# Altium footprint library 封装库.PCBLIB: 282 footprints (part 9 of 18)
Each footprint in its own frame and in the unit in brackets; x right, y up, seen from the top. Pads: shape width x height; smd on the part's side, far side on the other; paste and mask are expansions set on the pad; w line width, h text height; cw(c..) or ccw(c..) is an arc to the next point about the centre after c.
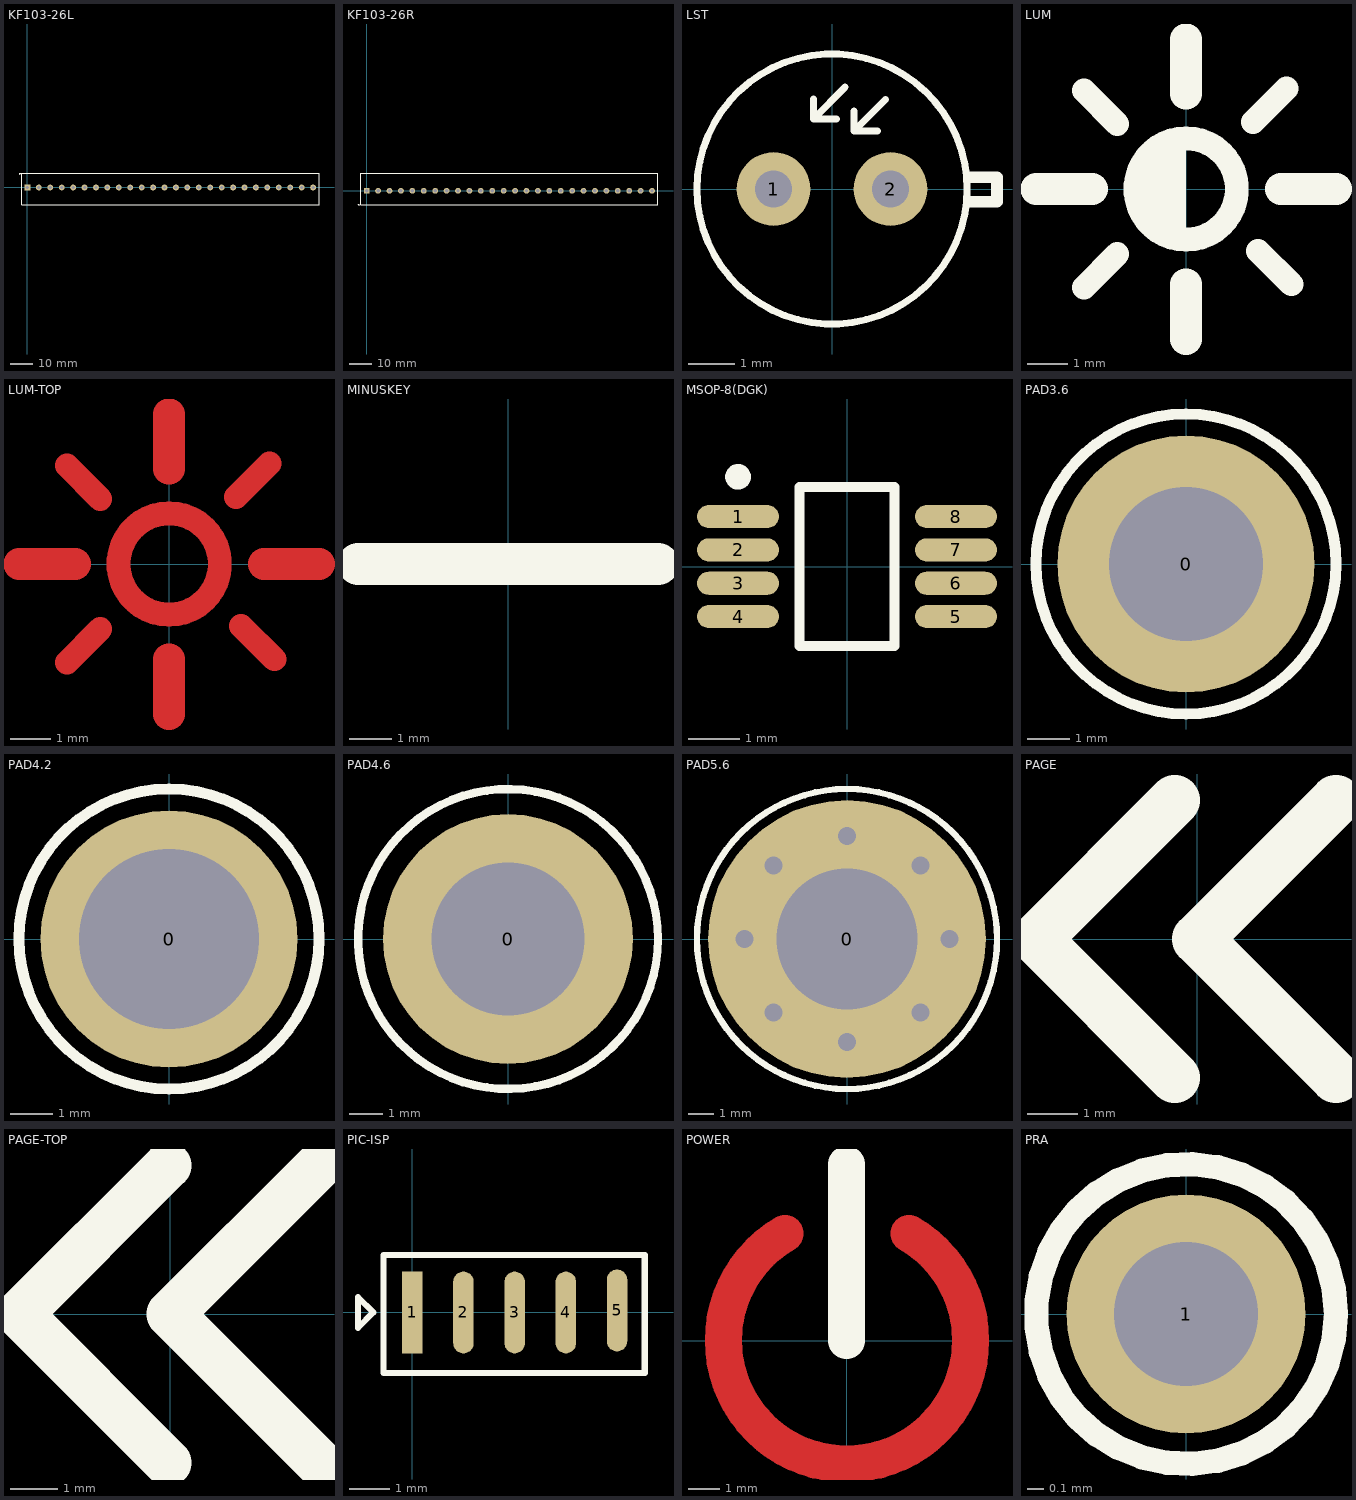
[diagram p8: the footprints below, top view; thin cyan lines are the x and y axes]

## KF103-26L [mm] "5.00mm,KF-128V,KF-103,left"
pads (26):
  rect 2.54x2.54 hole 1.5: 1(0,0)
  round 2.54 hole 1.5: 2(5,0) 3(10,0) 4(15,0) 5(20,0) 6(25,0) 7(30,0) 8(35,0) 9(40,0) 10(45,0) 11(50,0) 12(55,0) 13(60,0) 14(65,0) 15(70,0) 16(75,0) 17(80,0) 18(85,0) 19(90,0) 20(95,0) 21(100,0) 22(105,0) 23(110,0) 24(115,0) 25(120,0) 26(125,0)
TopOverlay:
  lines w0.152: 7.489,-7.5 18.523,-7.5 ; 17.511,-7.5 27.511,-7.5 ; -3.68,6.172 -2.918,6.172 -3.299,5.791 -3.68,6.172 ; -2.518,-7.5 -2.518,6.187 27.511,6.187 57.54,6.187 87.569,6.187 127.598,6.187 127.598,-7.5 -2.518,-7.5

## KF103-26R [mm] "5.00mm,KF-128V,KF-103,right"
pads (26):
  rect 2.54x2.54 hole 1.5: 1(0,0)
  round 2.54 hole 1.5: 2(5,0) 3(10,0) 4(15,0) 5(20,0) 6(25,0) 7(30,0) 8(35,0) 9(40,0) 10(45,0) 11(50,0) 12(55,0) 13(60,0) 14(65,0) 15(70,0) 16(75,0) 17(80,0) 18(85,0) 19(90,0) 20(95,0) 21(100,0) 22(105,0) 23(110,0) 24(115,0) 25(120,0) 26(125,0)
TopOverlay:
  lines w0.152: -3.81,-6.198 -3.429,-5.817 -3.048,-6.198 -3.81,-6.198 ; -2.5,-6.2 127.617,-6.2 127.617,7.8 -2.5,7.8 -2.5,0 -2.5,-6.2

## LST [mm]
pads (2):
  round 1.6 hole 0.8: 1(-1.27,0) 2(1.27,0)
TopOverlay:
  circle w0.152: c0,0 r2.932
  lines w0.152: -0.406,1.956 -0.406,1.524 0.279,2.21 ; -0.381,1.524 0.102,1.524 ; 0.478,1.69 0.478,1.258 1.164,1.944 ; 0.504,1.258 0.986,1.258
  lines w0.254: 2.997,0.254 3.581,0.254 3.581,-0.279 3.008,-0.279

## LUM [mm]
TopOverlay:
  rectangle: -0.66,-1.27 0,1.067
  rectangle: -0.66,-0.965 -0.127,1.067
  lines w0.254: -1.118,-0.559 -1.118,0.559 ; -0.889,-0.838 -0.889,0.787 ; -0.66,-0.965 -0.66,1.016 ; -0.432,-1.194 -0.432,1.092
  lines w0.6: -2.565,-2.464 -1.727,-1.626 ; -2.565,2.464 -1.727,1.626 ; 1.676,1.676 2.515,2.515 ; 1.803,-1.549 2.642,-2.388 ; 0,-1.27 ccw(c0,0) 0,1.27 ccw(c0,0) 0,-1.27
  lines w0.8: -3.759,0 -2.362,0 ; 0,-3.759 0,-2.388 ; 0,2.388 0,3.759 ; 2.378,0 3.749,0

## LUM-TOP [mm]
TopLayer:
  lines w0.6: -2.565,-2.464 -1.727,-1.626 ; -2.565,2.464 -1.727,1.626 ; 1.676,1.676 2.515,2.515 ; 1.803,-1.549 2.642,-2.388 ; 0,-1.27 cw(c0,0) 0,1.27 cw(c0,0) 0,-1.27
  lines w0.8: -3.759,0 -2.362,0 ; 0,-3.759 0,-2.388 ; 0,2.388 0,3.759 ; 2.378,0 3.749,0

## MINUSKEY [mm]
TopOverlay:
  lines w1: -3.556,0 0,0 3.556,0

## MSOP-8(DGK) [mm]
pads (8):
  oval 1.6x0.45 smd: 1(-2.125,0.975) 2(-2.125,0.325) 3(-2.125,-0.325) 4(-2.125,-0.975) 5(2.125,-0.975) 6(2.125,-0.325) 7(2.125,0.325) 8(2.125,0.975)
TopOverlay:
  circle w0.25: c-2.125,1.75 r0.125
  lines w0.2: -0.925,-1.55 -0.925,1.55 0.925,1.55 0.925,-1.55 -0.925,-1.55

## PAD3.6 [mm] "3.6mm,PAD"
pads (1):
  round 6 hole 3.6: 0(0,0)
TopOverlay:
  circle w0.254: c0,0 r3.5

## PAD4.2 [mm] "4.2mm,PAD"
pads (1):
  round 6 hole 4.2: 0(0,0)
TopOverlay:
  circle w0.254: c0,0 r3.5

## PAD4.6 [mm] "4.6mm,PAD"
pads (1):
  round 7.5 hole 4.6: 0(0,0)
TopOverlay:
  circle w0.254: c0,0 r4.5

## PAD5.6 [mm] "5.6mm,PAD"
pads (1):
  round 11 hole 5.6: 0(0,0)
via 0,4.089 diameter 1.27 hole 0.711
via -2.921,2.921 diameter 1.27 hole 0.711
via -4.064,0 diameter 1.27 hole 0.711
via -2.921,-2.921 diameter 1.27 hole 0.711
via 0,-4.089 diameter 1.27 hole 0.711
via 2.921,-2.921 diameter 1.27 hole 0.711
via 4.064,0 diameter 1.27 hole 0.711
via 2.921,2.921 diameter 1.27 hole 0.711
TopOverlay:
  circle w0.254: c0,0 r5.944

## PAGE [mm]
TopOverlay:
  lines w1: -0.445,-2.73 -3.175,0 -0.445,2.73 ; 2.73,-2.73 0,0 2.73,2.73

## PAGE-TOP [mm]
TopOverlay:
  lines w1: -0.051,-3.124 -3.175,0 -0.051,3.124 ; 3.124,-3.124 0,0 3.124,3.124

## PIC-ISP [mil]
pads (5):
  rect 20x80 smd: 1(0,0)
  oval 20x80 smd: 2(50,0) 3(100,0) 4(150,0) 5(200,2)
TopOverlay:
  lines w6: -53,-15 -53,15 -38,0 -53,-15 ; -28,-59 227,-59 227,56 -28,56 -28,-59

## POWER [mm]
TopLayer:
  lines w1.2: -1.988,3.473 ccw(c0.012,0.009) 2.012,3.473
TopOverlay:
  lines w1.2: 0,0 0,5.715

## PRA [mm] "small"
pads (1):
  round 1.5 hole 0.9: 1(0,0)
TopOverlay:
  circle w0.152: c0,0 r0.94